# EAGLE library part MAX4634 (library my_library)
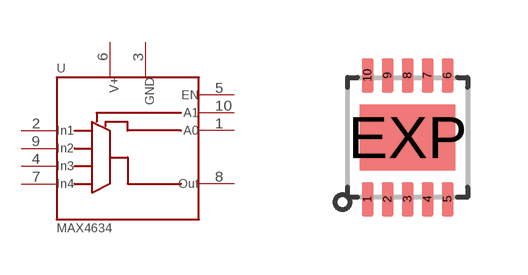
[diagram p6: symbol with the pads of DFN10-3X3; footprint DFN10-3X3]

Designator prefix U

## MAX4634  [DFN10-3X3]
1  A0
2  NO1
3  GND
4  NO3
5  EN
6  V+
7  NO4
8  COM
9  NO2
10  A1

## Footprint DFN10-3X3 (pad centres in mm)
Package EJ, 10-contact DFN (3mm × 3mm) Source: www.allegromicro.com .. 3901.pdf
smd 0.3 x 0.85: 1 -1,-1.55; 2 -0.5,-1.55; 3 0,-1.55; 4 0.5,-1.55; 5 1,-1.55; 6 1,1.55; 7 0.5,1.55; 8 0,1.55; 9 -0.5,1.55; 10 -1,1.55
smd 2.38 x 1.65: EXP 0,0